# Altium schematic symbol library nRF24L01P.SchLib: 1 symbol
Pins are listed as number, name and electrical type; pins without a type are passive.

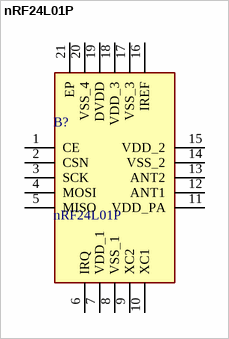
[diagram p0: symbol nRF24L01P]

## nRF24L01P
designator B?
Single Chip 2.4GHz Transceiver; Manufacturer_Name: Nordic Semiconductor; Geometry.Height: 0.95mm; Mouser Part Number: 949-NRF24L01P; Mouser Price/Stock: https://www.mouser.co.uk/ProductDetail/Nordic-Semiconductor/NRF24L01P?qs=yqaQSyyJnNiKlgjT8AqoOw%3D%3D; Manufacturer_Part_Number: nRF24L01P; Datasheet Link: *
footprint QFN50P400X400X95-21N-D
pins: 1 CE, 2 CSN, 3 SCK, 4 MOSI, 5 MISO, 6 IRQ, 7 VDD_1 (power), 8 VSS_1, 9 XC2, 10 XC1, 11 VDD_PA (power), 12 ANT1, 13 ANT2, 14 VSS_2, 15 VDD_2 (power), 16 IREF, 17 VSS_3, 18 VDD_3 (power), 19 DVDD (power), 20 VSS_4, 21 EP